# Altium schematic symbol library CC0603KRX7R9BB103.SchLib: 1 symbol
Pins are listed as number, name and electrical type; pins without a type are passive.

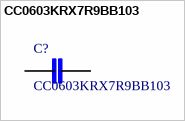
[diagram p0: symbol CC0603KRX7R9BB103]

## CC0603KRX7R9BB103
designator C?
Cap Cer 10000pf 50v 10% X7r 0603 Cap Cer 10000pf 50v 10% X7r 0603 Cap Cer 10000pf 50v 10% X7r 0603; MF: Yageo; Package: 0603 Yageo; Availability: Good; MP: CC0603KRX7R9BB103; Price: 0.01 USD; Value: *
footprint CAPC1608X90
pins: 1, 2